# EAGLE library part WE-RJ45_7497111611A (library 74980104400_Eagle_WE-RJ45_rev19b)
WE-RJ45 LAN Transformer Characteristics RJ45 Connector with integrated transformer / common mode choke Power over Ethernet up to 50 Watt and speeds up to 10 Gbit/s Available in SMD, THT and THT with USB Compliant with standards: IEEE 802.3u, IEEE 802.3ab, IEEE 802.3af, IEEE 802.3at, IEEE 802.3an and upcoming IEE 802.3bt Applications Suitable for industrial temperatures from –40 °C up to +85 °C Compatible to Industrial Ethernet systems like EtherCAT or Profinet Compliant with most IC’s for Ethernet applications such as Microchip, Texas Instruments, Broadcom, Linear Technology Hubs, Routers, Switches, IP cameras, IoT applications <https://katalog.we-online.com/media/images/v2/o35731v209%20Family_WE-RJ45-LAN.jpg> Details see: https://katalog.we-online.com/en/pbs/WE-LAN-RJ45 Updated by Ella Wu 2019-08-05 2019 (C) Wurth Elektronik
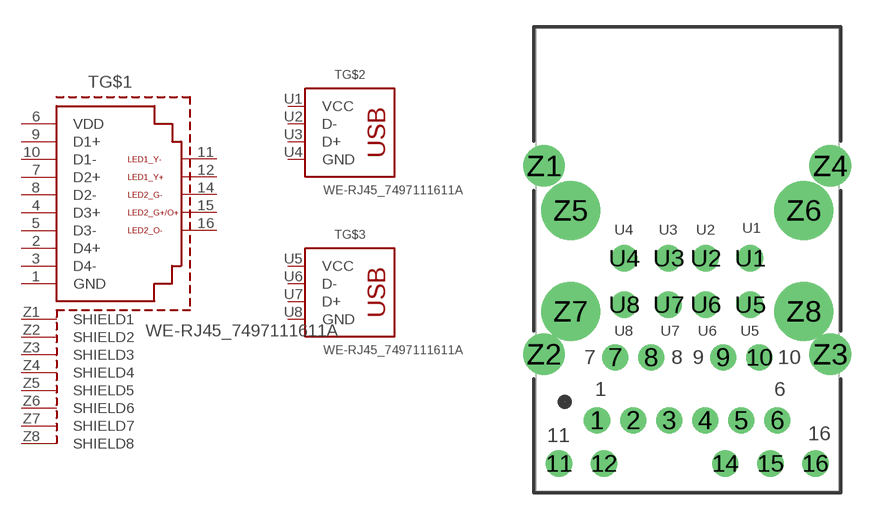
[diagram p45: symbol with the pads of 7497111611A; footprint 7497111611A]

Designator prefix T; gates G$1=7497111611A G$2=USB2.0 G$3=USB2.0

## WE-RJ45_7497111611A (DATA-RATE: 10/100/1000 Base-T; DATASHEET-URL: https://katalog.we-online.com/pbs/datasheet/7497111611A.pdf; LED: green/orange-yellow; MOUNT: THT; PART-NUMBER: 7497111611A; POE: non-PoE; PORTS: 1; USB: USB 2.0)  [7497111611A]
1  G$1:GND  pwr
2  G$1:D4+
3  G$1:D4-
4  G$1:D3+
5  G$1:D3-
6  G$1:VDD  pwr
7  G$1:D2+
8  G$1:D2-
9  G$1:D1+
10  G$1:D1-
11  G$1:LED1_Y-
12  G$1:LED1_Y+
14  G$1:LED2_G-
15  G$1:LED2_G+/O+
16  G$1:LED2_O-
U1  G$2:VCC  pwr
U2  G$2:D-
U3  G$2:D+
U4  G$2:GND  pwr
U5  G$3:VCC  pwr
U6  G$3:D-
U7  G$3:D+
U8  G$3:GND  pwr
Z1  G$1:SHIELD1  pwr
Z2  G$1:SHIELD2  pwr
Z3  G$1:SHIELD3  pwr
Z4  G$1:SHIELD4  pwr
Z5  G$1:SHIELD5  pwr
Z6  G$1:SHIELD6  pwr
Z7  G$1:SHIELD7  pwr
Z8  G$1:SHIELD8  pwr

## Footprint 7497111611A (pad centres in mm)
WE-RJ45 LAN Transformer 10/100/1000 Base-T
drill 0.97: 1 -5.075,-14.35; 2 -3.045,-14.35; 3 -1.015,-14.35; 4 1.015,-14.35; 5 3.045,-14.35; 6 5.075,-14.35; 7 -4.06,-10.8; 8 -2.03,-10.8; 9 2.03,-10.8; 10 4.06,-10.8; 11 -7.225,-16.78; 12 -4.685,-16.78; 14 2.145,-16.78; 15 4.685,-16.78; 16 7.225,-16.78; U1 3.55,-5.21; U2 1.05,-5.21; U3 -1.05,-5.21; U4 -3.55,-5.21; U5 3.55,-7.83; U6 1.05,-7.83; U7 -1.05,-7.83; U8 -3.55,-7.83
drill 1.57: Z1 -8.065,0; Z4 8.065,0
drill 1.57 pad 2.3: Z2 -8.065,-10.62; Z3 8.065,-10.62
drill 2.31: Z5 -6.565,-2.51; Z6 6.565,-2.51
drill 2.31 pad 3.2: Z7 -6.565,-8.2; Z8 6.565,-8.2